# Altium footprint library Kondensator_DIP.PcbLib: 221 footprints (part 8 of 14)
Each footprint in its own frame and in the unit in brackets; x right, y up, seen from the top. Pads: shape width x height; smd on the part's side, far side on the other; paste and mask are expansions set on the pad; w line width, h text height; cw(c..) or ccw(c..) is an arc to the next point about the centre after c.
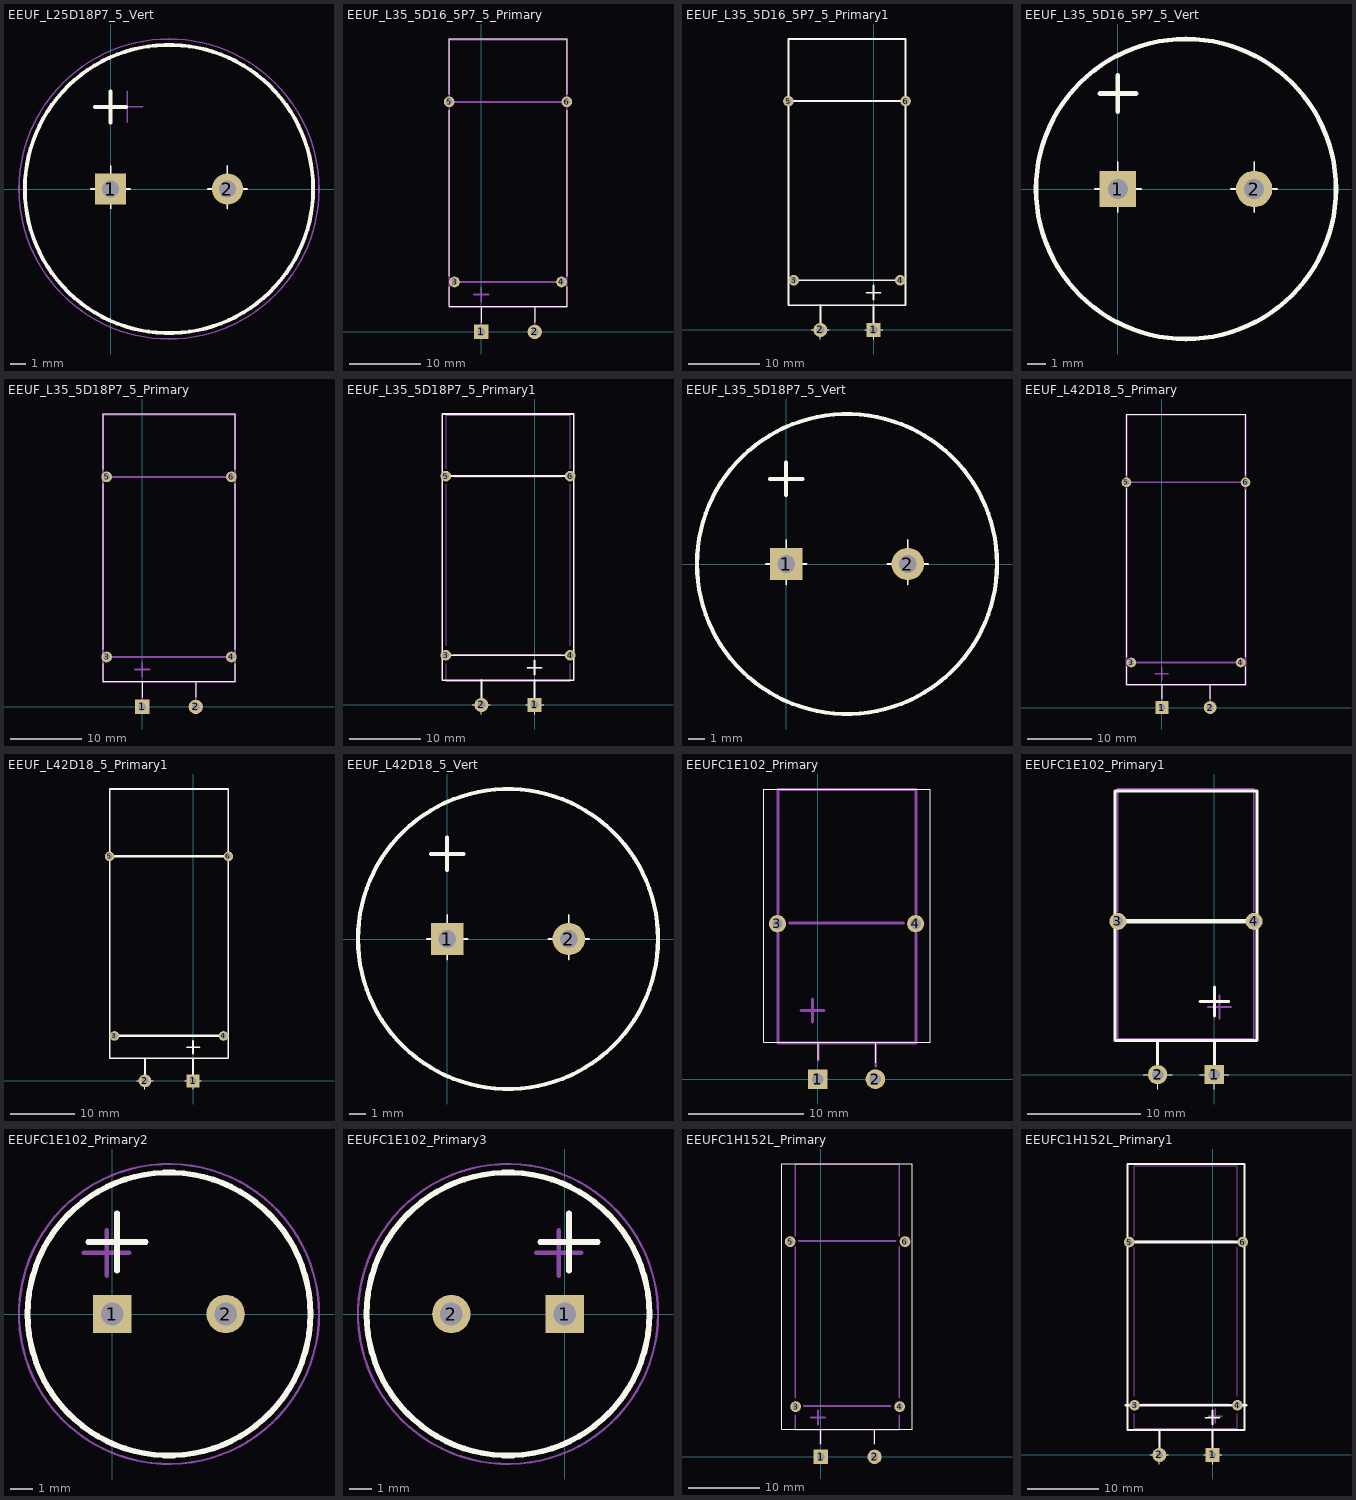
[diagram p7: the footprints below, top view; thin cyan lines are the x and y axes]

## EEUF_L25D18P7_5_Vert [mm]
pads (2):
  rect 2x2 hole 1.1: 1(0,0)
  round 2 hole 1.1: 2(7.5,0)
Top Overlay:
  circle w0.25: c3.75,0 r9.25
  lines w0.1: -1.27,0 1.27,0 ; 0,-1.27 0,1.5 ; 6.23,0 8.77,0 ; 7.5,-1.27 7.5,1.5
  lines w0.254: -1,5.25 1,5.25 ; 0,4.25 0,6.25
Mechanical 1:
  circle w0.1: c3.75,0 r9.625
  lines w0.1: 0.06,5.28 2.06,5.28 ; 1.06,4.28 1.06,6.28

## EEUF_L35_5D16_5P7_5_Primary [mm]
pads (6):
  rect 2x2 hole 1.1: 1(0,0)
  round 2 hole 1.1: 2(7.5,0)
  round 1.5 hole 0.9: 3(-3.75,7) 4(11.25,7) 5(-4.5,32.25) 6(12,32.25)
Top Overlay:
  lines w0.1: -4.46,6.32 -4.46,3.57 12.04,3.57 12.04,6.32 ; -4.46,7.82 -4.46,31.07 ; -4.46,33.32 -4.46,41.07 12.04,41.07 12.04,33.32 ; 0.04,1.32 0.04,3.57 ; 7.54,1.32 7.54,3.57 ; 12.04,7.82 12.04,31.07
Mechanical 1:
  lines w0.25: -4.5,7 12,7 ; -4.5,32.25 12,32.25 ; -1,5.25 1,5.25 ; 0,0 0,3.5 ; 0,4.25 0,6.25 ; 7.5,0 7.5,3.5 ; -4.5,3.5 3.75,3.5 12,3.5 12,41 -4.5,41 -4.5,3.5

## EEUF_L35_5D16_5P7_5_Primary1 [mm]
pads (6):
  rect 2x2 hole 1.1: 1(0,0)
  round 2 hole 1.1: 2(-7.5,0)
  round 1.5 hole 0.9: 3(-11.25,7) 4(3.75,7) 5(-12,32.25) 6(4.5,32.25)
Top Overlay:
  lines w0.1: -8.77,0 -6.23,0 ; -7.5,-1.27 -7.5,0 ; -1.27,0 1.27,0 ; 0,-1.27 0,0
  lines w0.25: -12,7 4.5,7 ; -12,32.25 4.5,32.25 ; -12,3.5 -3.75,3.5 4.5,3.5 4.5,41 -12,41 -12,3.5
  lines w0.254: -7.5,0 -7.5,3.5 ; -1,5.25 1,5.25 ; 0,0 0,3.5 ; 0,4.25 0,6.25

## EEUF_L35_5D16_5P7_5_Vert [mm]
pads (2):
  rect 2x2 hole 1.1: 1(0,0)
  round 2 hole 1.1: 2(7.5,0)
Top Overlay:
  circle w0.25: c3.75,0 r8.25
  lines w0.1: -1.27,0 1.27,0 ; 0,-1.27 0,1.5 ; 6.23,0 8.77,0 ; 7.5,-1.27 7.5,1.5
  lines w0.254: -1,5.25 1,5.25 ; 0,4.25 0,6.25

## EEUF_L35_5D18P7_5_Primary [mm]
pads (6):
  rect 2x2 hole 1.1: 1(0,0)
  round 2 hole 1.1: 2(7.5,0)
  round 1.5 hole 0.9: 3(-5,7) 4(12.5,7) 5(-5,32.25) 6(12.5,32.25)
Top Overlay:
  lines w0.1: -5.46,6.07 -5.46,3.57 13.04,3.57 13.04,6.07 ; -5.46,8.07 -5.46,31.32 ; -5.46,33.32 -5.46,41.07 13.04,41.07 13.04,33.32 ; 0.04,1.32 0.04,3.57 ; 7.54,1.32 7.54,3.57 ; 13.04,8.07 13.04,31.32
Mechanical 1:
  lines w0.25: -5.5,7 13,7 ; -5.5,32.25 13,32.25 ; -5.5,3.5 13,3.5 13,41 -5.5,41 -5.5,3.5
  lines w0.254: -1,5.25 1,5.25 ; 0,0 0,3.5 ; 0,4.25 0,6.25 ; 7.5,0 7.5,3.5

## EEUF_L35_5D18P7_5_Primary1 [mm]
pads (6):
  rect 2x2 hole 1.1: 1(0,0)
  round 2 hole 1.1: 2(-7.5,0)
  round 1.5 hole 0.9: 3(-12.5,7) 4(5,7) 5(-12.5,32.25) 6(5,32.25)
Top Overlay:
  lines w0.1: -8.77,0 -6.23,0 ; -7.5,-1.27 -7.5,0 ; -1.27,0 1.27,0 ; 0,-1.27 0,0
  lines w0.25: -13,7 5.5,7 ; -13,32.25 5.5,32.25 ; -13,3.5 5.5,3.5 5.5,41 -13,41 -13,3.5
  lines w0.254: -7.5,0 -7.5,3.5 ; -1,5.25 1,5.25 ; 0,0 0,3.5 ; 0,4.25 0,6.25
Mechanical 1:
  lines w0.15: -12.46,5.82 -12.46,3.32 5.04,3.32 5.04,5.82 ; -12.46,8.32 -12.46,31.12 ; -12.46,33.32 -12.46,40.82 5.04,40.82 5.04,33.32 ; 5.04,8.32 5.04,31.12
  lines w0.2: -1.01,5.25 0.99,5.25 ; -0.01,4.25 -0.01,6.25
  lines w0.3: -11.36,7.02 3.74,7.02 ; -11.26,32.22 3.74,32.22

## EEUF_L35_5D18P7_5_Vert [mm]
pads (2):
  rect 2x2 hole 1.1: 1(0,0)
  round 2 hole 1.1: 2(7.5,0)
Top Overlay:
  circle w0.25: c3.75,0 r9.25
  lines w0.1: -1.27,0 1.27,0 ; 0,-1.27 0,1.5 ; 6.23,0 8.77,0 ; 7.5,-1.27 7.5,1.5
  lines w0.254: -1,5.25 1,5.25 ; 0,4.25 0,6.25

## EEUF_L42D18_5_Primary [mm]
pads (6):
  rect 2x2 hole 1.1: 1(0,0)
  round 2 hole 1.1: 2(7.5,0)
  round 1.5 hole 0.9: 3(-4.75,7) 4(12.25,7) 5(-5.5,35) 6(13,35)
Top Overlay:
  lines w0.1: -5.46,6.36 -5.46,3.61 13.04,3.61 13.04,6.36 ; -5.46,7.86 -5.46,34.11 ; -5.46,36.11 -5.46,45.61 13.04,45.61 13.04,36.11 ; 0.04,1.36 0.04,3.61 ; 7.54,1.36 7.54,3.61 ; 13.04,7.86 13.04,33.86
Mechanical 1:
  lines w0.25: -5.25,7 12.75,7 ; -5.25,35 12.75,35 ; -1,5.25 1,5.25 ; 0,0 0,3.5 ; 0,4.25 0,6.25 ; 7.5,0 7.5,3.5 ; -5.5,3.5 13,3.5 13,45.5 -5.5,45.5 -5.5,3.5

## EEUF_L42D18_5_Primary1 [mm]
pads (6):
  rect 2x2 hole 1.1: 1(0,0)
  round 2 hole 1.1: 2(-7.5,0)
  round 1.5 hole 0.9: 3(-12.25,7) 4(4.75,7) 5(-13,35) 6(5.5,35)
Top Overlay:
  lines w0.1: -8.77,0 -6.23,0 ; -7.5,-1.27 -7.5,0 ; -1.27,0 1.27,0 ; 0,-1.27 0,0
  lines w0.254: -7.5,0 -7.5,3.5 ; -1,5.25 1,5.25 ; 0,0 0,3.5 ; 0,4.25 0,6.25 ; -13,3.5 5.5,3.5 5.5,45.5 -13,45.5 -13,3.5
  lines w0.4: -12.75,7 5.25,7 ; -12.75,35 5.25,35

## EEUF_L42D18_5_Vert [mm]
pads (2):
  rect 2x2 hole 1.1: 1(0,0)
  round 2 hole 1.1: 2(7.5,0)
Top Overlay:
  circle w0.25: c3.75,0 r9.25
  lines w0.1: -1.27,0 1.27,0 ; 0,-1.27 0,1.5 ; 6.23,0 8.77,0 ; 7.5,-1.27 7.5,1.5
  lines w0.254: -1,5.25 1,5.25 ; 0,4.25 0,6.25
Mechanical 1:
  circle w0.15: c3.75,0 r9.25
  lines w0.2: -1,5.25 1,5.25 ; 0,4.25 0,6.25

## EEUFC1E102_Primary [mm]
pads (4):
  rect 1.7x1.7 hole 1: 1(0,0)
  round 1.7 hole 1: 2(5,0)
  round 1.5 hole 0.9: 3(-3.5,13.5) 4(8.5,13.5)
Top Overlay:
  lines w0.1: 0.04,1.7 0.04,3.2 ; 5.04,1.45 5.04,3.2 ; -4.71,3.2 9.54,3.2 9.79,3.2 9.79,25.2 -4.71,25.2 -4.71,3.2
Mechanical 1:
  lines w0.25: -3.46,12.66 -3.46,3.16 8.54,3.16 8.54,12.66 ; -3.46,14.36 -3.46,14.46 -3.46,14.66 -3.46,25.16 8.54,25.16 8.54,14.66 8.54,14.36 ; -2.46,13.56 7.44,13.56 ; -1.46,5.96 0.54,5.96 ; -0.46,4.96 -0.46,6.96 ; 0.04,1.66 0.04,3.16 ; 5.04,1.16 5.04,3.16

## EEUFC1E102_Primary1 [mm]
pads (4):
  rect 1.7x1.7 hole 1: 1(0,0)
  round 1.7 hole 1: 2(-5,0)
  round 1.5 hole 0.9: 3(-8.5,13.5) 4(3.5,13.5)
Top Overlay:
  lines w0.1: -6.27,0 -3.73,0 ; -5,-1.27 -5,0 ; -1.27,0 1.27,0 ; 0,-1.27 0,0
  lines w0.254: -5,0 -5,3 ; -1.27,6.445 1.27,6.445 ; 0,0 0,3 ; 0,5.175 0,7.715 ; -5,3 -8.75,3 -8.75,25 3.75,25 3.75,3 0,3 ; -5,3 0,3
  lines w0.4: -9,13.5 4,13.5
Mechanical 1:
  lines w0.15: -8.54,12.66 -8.54,3.16 3.46,3.16 3.46,12.66 ; -8.54,14.36 -8.54,14.66 -8.54,25.16 3.46,25.16 3.46,14.66 3.46,14.46 3.46,14.36 ; -4.96,1.66 -4.96,3.16 ; 0.04,1.16 0.04,3.16
  lines w0.2: -0.54,5.96 1.46,5.96 ; 0.46,4.96 0.46,6.96
  lines w0.3: -7.44,13.56 2.46,13.56

## EEUFC1E102_Primary2 [mm]
pads (2):
  rect 1.7x1.7 hole 1: 1(0,0)
  round 1.7 hole 1: 2(5,0)
Top Overlay:
  circle w0.254: c2.5,0 r6.25
  lines w0.254: -1.07,3.185 1.47,3.185 ; 0.2,1.915 0.2,4.455
Mechanical 1:
  circle w0.1: c2.5,0 r6.627
  lines w0.2: -1.26,2.7 0.74,2.7 ; -0.26,1.7 -0.26,3.7

## EEUFC1E102_Primary3 [mm]
pads (2):
  rect 1.7x1.7 hole 1: 1(0,0)
  round 1.7 hole 1: 2(-5,0)
Top Overlay:
  circle w0.254: c-2.5,0 r6.25
  lines w0.254: -1.07,3.185 1.47,3.185 ; 0.2,1.915 0.2,4.455
Mechanical 1:
  circle w0.1: c-2.5,0 r6.627
  lines w0.2: -1.26,2.7 0.74,2.7 ; -0.26,1.7 -0.26,3.7

## EEUFC1H152L_Primary [mm]
pads (6):
  rect 2x2 hole 1: 1(0,0)
  round 2 hole 1: 2(7.5,0)
  round 1.5 hole 0.9: 3(-3.5,7) 4(11,7) 5(-4.25,30) 6(11.75,30)
Top Overlay:
  lines w0.1: 0.04,1.82 0.04,3.82 ; 7.54,1.82 7.54,3.82 ; -5.46,3.82 -4.71,3.82 12.04,3.82 12.79,3.82 12.79,40.82 -5.21,40.82 -5.46,40.82 -5.46,3.82
Mechanical 1:
  lines w0.25: -3.54,5.78 -3.54,3.78 10.96,3.78 10.96,5.78 ; -3.54,8.28 -3.54,29.28 ; -3.54,30.78 -3.54,40.78 10.96,40.78 10.96,30.78 ; -3.04,30.08 10.46,30.08 ; -2.34,7.08 9.76,7.08 ; -1.36,5.48 0.64,5.48 ; -0.36,4.48 -0.36,6.48 ; -0.04,1.78 -0.04,3.78 ; 7.46,1.78 7.46,3.78 ; 10.96,8.28 10.96,29.28

## EEUFC1H152L_Primary1 [mm]
pads (6):
  rect 2x2 hole 1: 1(0,0)
  round 2 hole 1: 2(-7.5,0)
  round 1.5 hole 0.9: 3(-11,7) 4(3.5,7) 5(-11.75,30) 6(4.25,30)
Top Overlay:
  lines w0.1: -8.77,0 -6.23,0 ; -7.5,-1.27 -7.5,0 ; -1.27,0 1.27,0 ; 0,-1.27 0,0
  lines w0.254: -7.5,0 -7.5,3.5 ; -1,5.25 1,5.25 ; 0,0 0,3.5 ; 0,4.25 0,6.25 ; -12,3.5 4.5,3.5 4.5,41 -12,41 -12,3.5
  lines w0.4: -12.25,7 4.75,7 ; -12.25,30 4.75,30
Mechanical 1:
  lines w0.15: -11.04,5.78 -11.04,3.78 3.46,3.78 3.46,5.78 ; -11.04,8.28 -11.04,29.28 ; -11.04,30.78 -11.04,40.78 3.46,40.78 3.46,30.78 ; -7.54,1.78 -7.54,3.78 ; -0.04,1.78 -0.04,3.78 ; 3.46,8.28 3.46,29.28
  lines w0.2: -0.64,5.48 1.36,5.48 ; 0.36,4.48 0.36,6.48
  lines w0.3: -10.54,30.08 2.96,30.08 ; -9.84,7.08 2.26,7.08